# Altium schematic symbol library PRIUMS_STANDARD.SchLib: 6 symbols
Pins are listed as number, name and electrical type; pins without a type are passive.

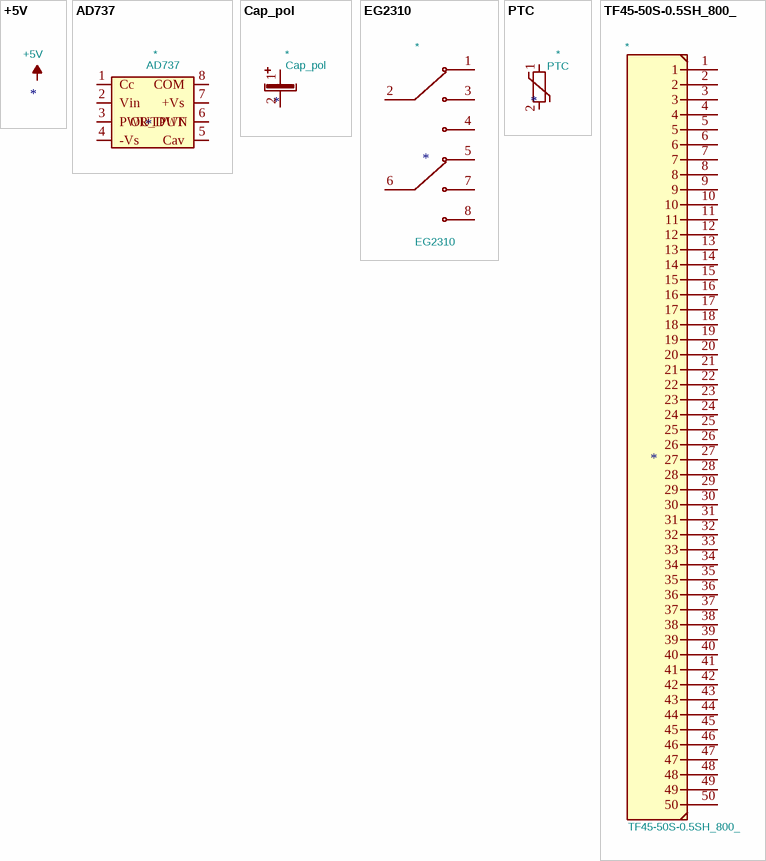
[diagram p0: symbols +5V to TF45-50S-0.5SH_800_]

## +5V
designator *  value +5V
pins: #PWR? hidden

## AD737
designator *  value AD737
pins: 1 Cc, 2 Vin, 3 PWR_DWN, 4 -Vs, 5 Cav, 6 OUTPUT, 7 +Vs, 8 COM

## Cap_pol
designator *  value Cap_pol
pins: 1, 2

## EG2310
designator *  value EG2310
\nSlide Switch DP3T Through Hole, Right Angle\n; MF: E-Switch; Footprint: EG2310:SW_EG2310; MAXIMUM_PACKAGE_HEIGHT: 4.7mm; Package: None; Price: None; Check_prices: https://www.snapeda.com/parts/EG2310/E-Switch/view-part/?ref=eda; STANDARD: Manufacturer Recommendations; PARTREV: -; SnapEDA_Link: https://www.snapeda.com/parts/EG2310/E-Switch/view-part/?ref=snap; MP: EG2310; Purchase-URL: https://www.snapeda.com/api/url_track_click_mouser/?unipart_id=396456&manufacturer=E-Switch&part_name=EG2310&search_term=None; Description_: \nSlide Switch DP3T Through Hole, Right Angle\n; MANUFACTURER: E-Switch; Availability: In Stock; SNAPEDA_PN: EG2310
footprint SW_EG2310
pins: 1, 2, 3, 4, 5, 6, 7, 8

## PTC
designator *  value PTC
pins: 1, 2

## TF45-50S-0.5SH_800_
designator *  value TF45-50S-0.5SH_800_
\nFFC & FPC Connectors\n; MANUFACTURER: HRS; MF: Hirose Connector; MP: TF45-50S-0.5SH(800); Footprint: TF45-50S-0.5SH_800_:HRS_TF45-50S-0.5SH_800_; Description_: \nFFC & FPC Connectors\n; Package: None; Price: None; Check_prices: https://www.snapeda.com/parts/TF45-50S-0.5SH(800)/Hirose/view-part/?ref=eda; SnapEDA_Link: https://www.snapeda.com/parts/TF45-50S-0.5SH(800)/Hirose/view-part/?ref=snap; Availability: In Stock
footprint HRS_TF45-50S-0.5SH_800_
pins: 1, 2, 3, 4, 5, 6, 7, 8, 9, 10, 11, 12, 13, 14, 15, 16, 17, 18, 19, 20, 21, 22, 23, 24, 25, 26, 27, 28, 29, 30, 31, 32, 33, 34, 35, 36, 37, 38, 39, 40, 41, 42, 43, 44, 45, 46, 47, 48, 49, 50